# Altium footprint library QFN_Sq_65P_Side_N.PcbLib: 52 footprints (part 2 of 4)
Each footprint in its own frame and in the unit in brackets; x right, y up, seen from the top. Pads: shape width x height; smd on the part's side, far side on the other; paste and mask are expansions set on the pad; w line width, h text height; cw(c..) or ccw(c..) is an arc to the next point about the centre after c.
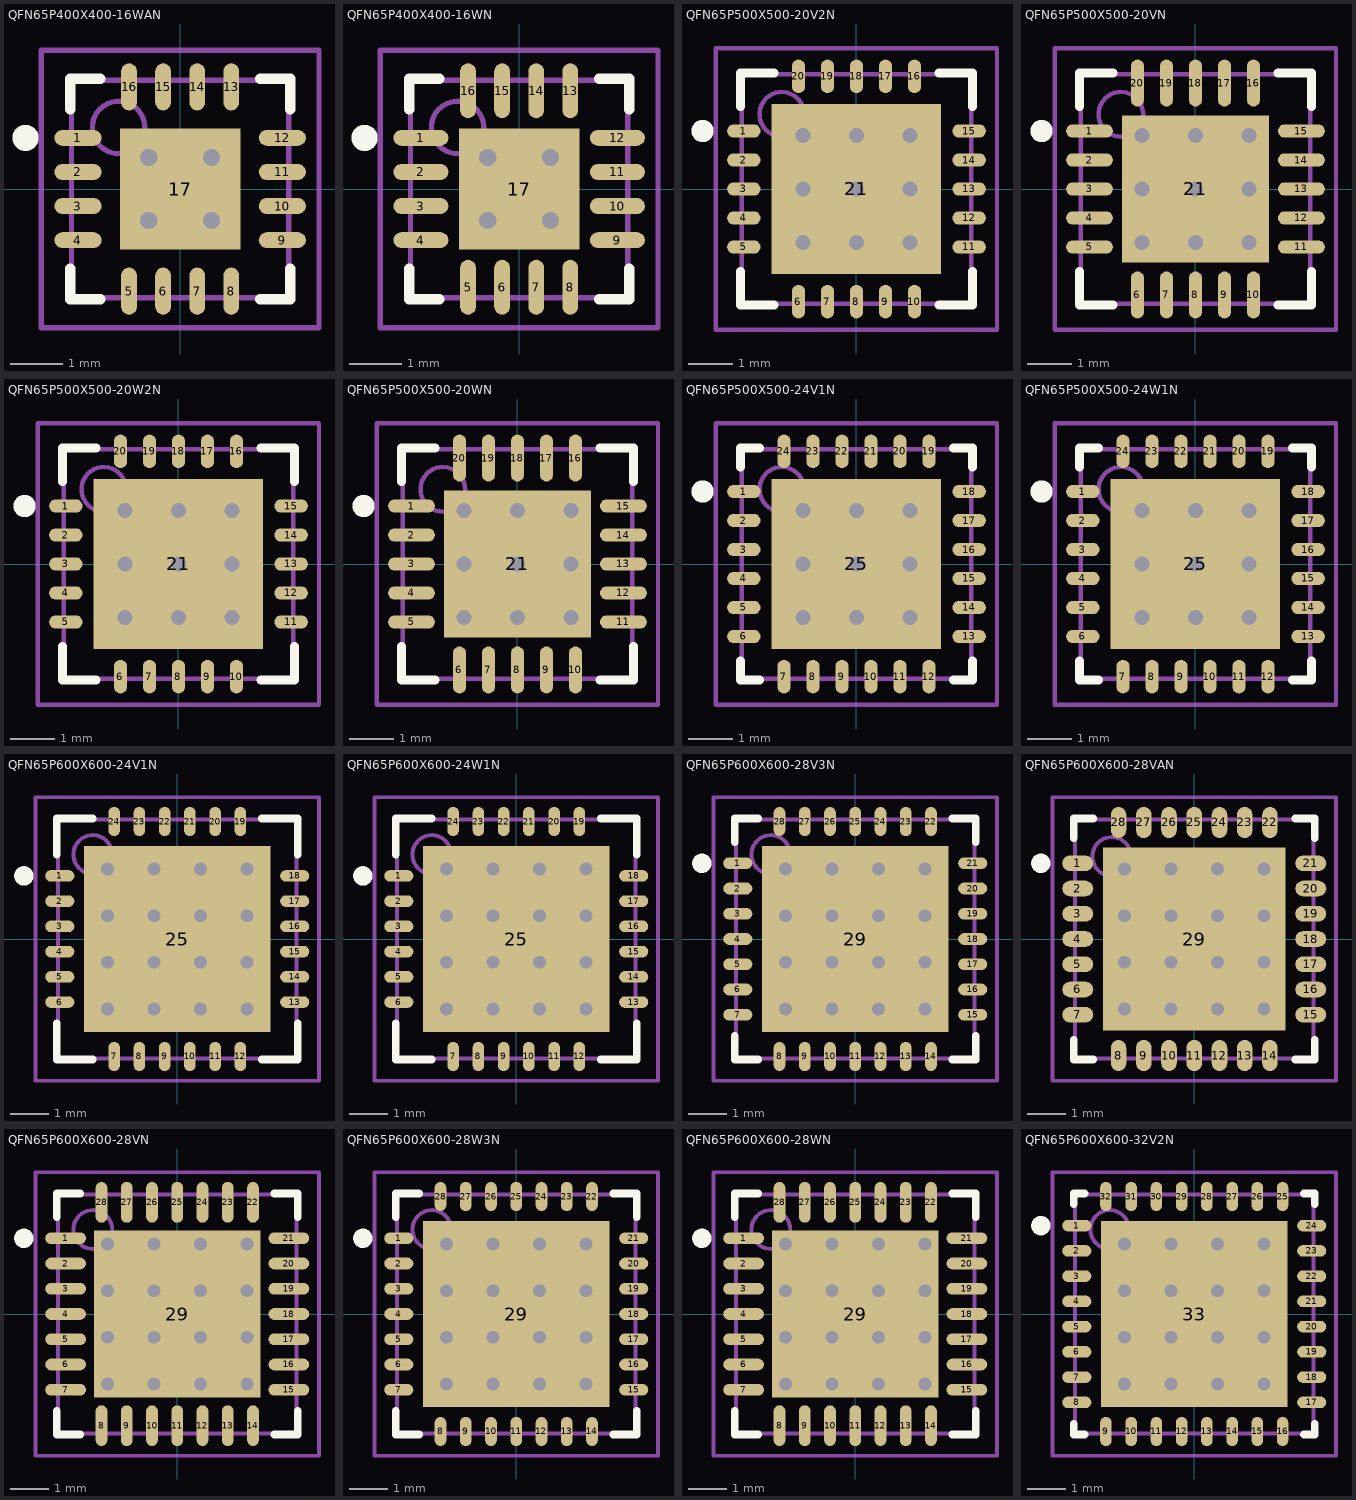
[diagram p1: the footprints below, top view; thin cyan lines are the x and y axes]

## QFN65P400X400-16WAN [mm] "16-Pin Plastic Quad Flat No-Lead 0.65 mm Pitch"
height 0.8
pads (17):
  oval 0.9x0.3 smd: 1(-1.95,0.975) 2(-1.95,0.325) 3(-1.95,-0.325) 4(-1.95,-0.975) 9(1.95,-0.975) 10(1.95,-0.325) 11(1.95,0.325) 12(1.95,0.975)
  oval 0.3x0.9 smd: 5(-0.975,-1.95) 6(-0.325,-1.95) 7(0.325,-1.95) 8(0.975,-1.95) 13(0.975,1.95) 14(0.325,1.95) 15(-0.325,1.95) 16(-0.975,1.95)
  rect 2.3x2.3 smd: 17(0,0)
via -0.6,0.6 diameter 0.66 hole 0.33
via 0.6,0.6 diameter 0.66 hole 0.33
via -0.6,-0.6 diameter 0.66 hole 0.33
via 0.6,-0.6 diameter 0.66 hole 0.33
Top Overlay:
  circle w0.25: c-2.95,0.975 r0.125
  lines w0.2: -2.1,-1.525 -2.1,-2.1 -1.525,-2.1 ; -2.1,1.525 -2.1,2.1 -1.525,2.1 ; 1.525,-2.1 2.1,-2.1 2.1,-1.525 ; 1.525,2.1 2.1,2.1 2.1,1.525
Mechanical 13:
  circle w0.1: c-1.175,1.175 r0.5
  lines w0.1: -2.075,-2.075 -2.075,2.075 2.075,2.075 2.075,-2.075 -2.075,-2.075
Mechanical 15:
  lines w0.1: -0.5,0 0.5,0 ; 0,-0.5 0,0.5 ; -2.65,-2.65 -2.65,2.65 2.65,2.65 2.65,-2.65 -2.65,-2.65
3D body: height 1, standoff 0, extent -2.075,-2.075 2.075,2.075

## QFN65P400X400-16WN [mm] "QFN, 16-Leads, Body 4x4 mm, Pitch 0.65mm, IPC Medium Density"
height 0.8
pads (17):
  oval 1.05x0.3 smd: 1(-1.875,0.975) 2(-1.875,0.325) 3(-1.875,-0.325) 4(-1.875,-0.975) 9(1.875,-0.975) 10(1.875,-0.325) 11(1.875,0.325) 12(1.875,0.975)
  oval 0.3x1.05 smd: 5(-0.975,-1.875) 6(-0.325,-1.875) 7(0.325,-1.875) 8(0.975,-1.875) 13(0.975,1.875) 14(0.325,1.875) 15(-0.325,1.875) 16(-0.975,1.875)
  rect 2.3x2.3 smd: 17(0,0)
via 0.6,-0.6 diameter 0.66 hole 0.33
via -0.6,-0.6 diameter 0.66 hole 0.33
via 0.6,0.6 diameter 0.66 hole 0.33
via -0.6,0.6 diameter 0.66 hole 0.33
Top Overlay:
  circle w0.25: c-2.95,0.975 r0.125
  lines w0.2: -2.1,-1.525 -2.1,-2.1 -1.525,-2.1 ; -2.1,1.525 -2.1,2.1 -1.525,2.1 ; 1.525,-2.1 2.1,-2.1 2.1,-1.525 ; 1.525,2.1 2.1,2.1 2.1,1.525
Mechanical 13:
  circle w0.1: c-1.175,1.175 r0.5
  lines w0.1: -2.075,-2.075 2.075,-2.075 2.075,2.075 -2.075,2.075 -2.075,-2.075
Mechanical 15:
  lines w0.1: -0.5,0 0.5,0 ; 0,-0.5 0,0.5 ; -2.65,-2.65 2.65,-2.65 2.65,2.65 -2.65,2.65 -2.65,-2.65
3D body: height 0.8, standoff 0, extent -2.075,-2.075 2.075,2.075

## QFN65P500X500-20V2N [mm] "QFN, 20-Leads, Body 5x5 mm, Pitch 0.65mm, IPC Medium Density"
height 1
pads (21):
  oval 0.75x0.3 smd: 1(-2.525,1.3) 2(-2.525,0.65) 3(-2.525,0) 4(-2.525,-0.65) 5(-2.525,-1.3) 11(2.525,-1.3) 12(2.525,-0.65) 13(2.525,0) 14(2.525,0.65) 15(2.525,1.3)
  oval 0.3x0.75 smd: 6(-1.3,-2.525) 7(-0.65,-2.525) 8(0,-2.525) 9(0.65,-2.525) 10(1.3,-2.525) 16(1.3,2.525) 17(0.65,2.525) 18(0,2.525) 19(-0.65,2.525) 20(-1.3,2.525)
  rect 3.8x3.8 smd: 21(0,0)
via 1.2,-1.2 diameter 0.66 hole 0.33
via 0,-1.2 diameter 0.66 hole 0.33
via -1.2,-1.2 diameter 0.66 hole 0.33
via 1.2,0 diameter 0.66 hole 0.33
via 0,0 diameter 0.66 hole 0.33
via -1.2,0 diameter 0.66 hole 0.33
via 1.2,1.2 diameter 0.66 hole 0.33
via 0,1.2 diameter 0.66 hole 0.33
via -1.2,1.2 diameter 0.66 hole 0.33
Top Overlay:
  circle w0.25: c-3.45,1.3 r0.125
  lines w0.2: -2.6,-1.85 -2.6,-2.6 -1.85,-2.6 ; -2.6,1.85 -2.6,2.6 -1.85,2.6 ; 1.85,-2.6 2.6,-2.6 2.6,-1.85 ; 1.85,2.6 2.6,2.6 2.6,1.85
Mechanical 13:
  circle w0.1: c-1.675,1.675 r0.5
  lines w0.1: -2.575,-2.575 2.575,-2.575 2.575,2.575 -2.575,2.575 -2.575,-2.575
Mechanical 15:
  lines w0.1: -0.5,0 0.5,0 ; 0,-0.5 0,0.5 ; -3.15,-3.15 3.15,-3.15 3.15,3.15 -3.15,3.15 -3.15,-3.15
3D body: height 1, standoff 0, extent -2.575,-2.575 2.575,2.575

## QFN65P500X500-20VN [mm] "QFN, 20-Leads, Body 5x5 mm, Pitch 0.65mm, IPC Medium Density"
height 1
pads (21):
  oval 1.05x0.3 smd: 1(-2.375,1.3) 2(-2.375,0.65) 3(-2.375,0) 4(-2.375,-0.65) 5(-2.375,-1.3) 11(2.375,-1.3) 12(2.375,-0.65) 13(2.375,0) 14(2.375,0.65) 15(2.375,1.3)
  oval 0.3x1.05 smd: 6(-1.3,-2.375) 7(-0.65,-2.375) 8(0,-2.375) 9(0.65,-2.375) 10(1.3,-2.375) 16(1.3,2.375) 17(0.65,2.375) 18(0,2.375) 19(-0.65,2.375) 20(-1.3,2.375)
  rect 3.3x3.3 smd: 21(0,0)
via 1.2,-1.2 diameter 0.66 hole 0.33
via 0,-1.2 diameter 0.66 hole 0.33
via -1.2,-1.2 diameter 0.66 hole 0.33
via 1.2,0 diameter 0.66 hole 0.33
via 0,0 diameter 0.66 hole 0.33
via -1.2,0 diameter 0.66 hole 0.33
via 1.2,1.2 diameter 0.66 hole 0.33
via 0,1.2 diameter 0.66 hole 0.33
via -1.2,1.2 diameter 0.66 hole 0.33
Top Overlay:
  circle w0.25: c-3.45,1.3 r0.125
  lines w0.2: -2.6,-1.85 -2.6,-2.6 -1.85,-2.6 ; -2.6,1.85 -2.6,2.6 -1.85,2.6 ; 1.85,-2.6 2.6,-2.6 2.6,-1.85 ; 1.85,2.6 2.6,2.6 2.6,1.85
Mechanical 13:
  circle w0.1: c-1.675,1.675 r0.5
  lines w0.1: -2.575,-2.575 2.575,-2.575 2.575,2.575 -2.575,2.575 -2.575,-2.575
Mechanical 15:
  lines w0.1: -0.5,0 0.5,0 ; 0,-0.5 0,0.5 ; -3.15,-3.15 3.15,-3.15 3.15,3.15 -3.15,3.15 -3.15,-3.15
3D body: height 1, standoff 0, extent -2.575,-2.575 2.575,2.575

## QFN65P500X500-20W2N [mm] "QFN, 20-Leads, Body 5x5 mm, Pitch 0.65mm, IPC Medium Density"
height 0.8
pads (21):
  oval 0.75x0.3 smd: 1(-2.525,1.3) 2(-2.525,0.65) 3(-2.525,0) 4(-2.525,-0.65) 5(-2.525,-1.3) 11(2.525,-1.3) 12(2.525,-0.65) 13(2.525,0) 14(2.525,0.65) 15(2.525,1.3)
  oval 0.3x0.75 smd: 6(-1.3,-2.525) 7(-0.65,-2.525) 8(0,-2.525) 9(0.65,-2.525) 10(1.3,-2.525) 16(1.3,2.525) 17(0.65,2.525) 18(0,2.525) 19(-0.65,2.525) 20(-1.3,2.525)
  rect 3.8x3.8 smd: 21(0,0)
via 1.2,-1.2 diameter 0.66 hole 0.33
via 0,-1.2 diameter 0.66 hole 0.33
via -1.2,-1.2 diameter 0.66 hole 0.33
via 1.2,0 diameter 0.66 hole 0.33
via 0,0 diameter 0.66 hole 0.33
via -1.2,0 diameter 0.66 hole 0.33
via 1.2,1.2 diameter 0.66 hole 0.33
via 0,1.2 diameter 0.66 hole 0.33
via -1.2,1.2 diameter 0.66 hole 0.33
Top Overlay:
  circle w0.25: c-3.45,1.3 r0.125
  lines w0.2: -2.6,-1.85 -2.6,-2.6 -1.85,-2.6 ; -2.6,1.85 -2.6,2.6 -1.85,2.6 ; 1.85,-2.6 2.6,-2.6 2.6,-1.85 ; 1.85,2.6 2.6,2.6 2.6,1.85
Mechanical 13:
  circle w0.1: c-1.675,1.675 r0.5
  lines w0.1: -2.575,-2.575 2.575,-2.575 2.575,2.575 -2.575,2.575 -2.575,-2.575
Mechanical 15:
  lines w0.1: -0.5,0 0.5,0 ; 0,-0.5 0,0.5 ; -3.15,-3.15 3.15,-3.15 3.15,3.15 -3.15,3.15 -3.15,-3.15
3D body: height 0.8, standoff 0, extent -2.575,-2.575 2.575,2.575

## QFN65P500X500-20WN [mm] "QFN, 20-Leads, Body 5x5 mm, Pitch 0.65mm, IPC Medium Density"
height 0.8
pads (21):
  oval 1.05x0.3 smd: 1(-2.375,1.3) 2(-2.375,0.65) 3(-2.375,0) 4(-2.375,-0.65) 5(-2.375,-1.3) 11(2.375,-1.3) 12(2.375,-0.65) 13(2.375,0) 14(2.375,0.65) 15(2.375,1.3)
  oval 0.3x1.05 smd: 6(-1.3,-2.375) 7(-0.65,-2.375) 8(0,-2.375) 9(0.65,-2.375) 10(1.3,-2.375) 16(1.3,2.375) 17(0.65,2.375) 18(0,2.375) 19(-0.65,2.375) 20(-1.3,2.375)
  rect 3.3x3.3 smd: 21(0,0)
via 1.2,-1.2 diameter 0.66 hole 0.33
via 0,-1.2 diameter 0.66 hole 0.33
via -1.2,-1.2 diameter 0.66 hole 0.33
via 1.2,0 diameter 0.66 hole 0.33
via 0,0 diameter 0.66 hole 0.33
via -1.2,0 diameter 0.66 hole 0.33
via 1.2,1.2 diameter 0.66 hole 0.33
via 0,1.2 diameter 0.66 hole 0.33
via -1.2,1.2 diameter 0.66 hole 0.33
Top Overlay:
  circle w0.25: c-3.45,1.3 r0.125
  lines w0.2: -2.6,-1.85 -2.6,-2.6 -1.85,-2.6 ; -2.6,1.85 -2.6,2.6 -1.85,2.6 ; 1.85,-2.6 2.6,-2.6 2.6,-1.85 ; 1.85,2.6 2.6,2.6 2.6,1.85
Mechanical 13:
  circle w0.1: c-1.675,1.675 r0.5
  lines w0.1: -2.575,-2.575 2.575,-2.575 2.575,2.575 -2.575,2.575 -2.575,-2.575
Mechanical 15:
  lines w0.1: -0.5,0 0.5,0 ; 0,-0.5 0,0.5 ; -3.15,-3.15 3.15,-3.15 3.15,3.15 -3.15,3.15 -3.15,-3.15
3D body: height 0.8, standoff 0, extent -2.575,-2.575 2.575,2.575

## QFN65P500X500-24V1N [mm] "QFN, 24-Leads, Body 5x5 mm, Pitch 0.65mm, IPC Medium Density"
height 1
pads (25):
  oval 0.75x0.3 smd: 1(-2.525,1.625) 2(-2.525,0.975) 3(-2.525,0.325) 4(-2.525,-0.325) 5(-2.525,-0.975) 6(-2.525,-1.625) 13(2.525,-1.625) 14(2.525,-0.975) 15(2.525,-0.325) 16(2.525,0.325) 17(2.525,0.975) 18(2.525,1.625)
  oval 0.3x0.75 smd: 7(-1.625,-2.525) 8(-0.975,-2.525) 9(-0.325,-2.525) 10(0.325,-2.525) 11(0.975,-2.525) 12(1.625,-2.525) 19(1.625,2.525) 20(0.975,2.525) 21(0.325,2.525) 22(-0.325,2.525) 23(-0.975,2.525) 24(-1.625,2.525)
  rect 3.8x3.8 smd: 25(0,0)
via 1.2,-1.2 diameter 0.66 hole 0.33
via 0,-1.2 diameter 0.66 hole 0.33
via -1.2,-1.2 diameter 0.66 hole 0.33
via 1.2,0 diameter 0.66 hole 0.33
via 0,0 diameter 0.66 hole 0.33
via -1.2,0 diameter 0.66 hole 0.33
via 1.2,1.2 diameter 0.66 hole 0.33
via 0,1.2 diameter 0.66 hole 0.33
via -1.2,1.2 diameter 0.66 hole 0.33
Top Overlay:
  circle w0.25: c-3.45,1.625 r0.125
  lines w0.2: -2.6,-2.175 -2.6,-2.6 -2.175,-2.6 ; -2.6,2.175 -2.6,2.6 -2.175,2.6 ; 2.175,-2.6 2.6,-2.6 2.6,-2.175 ; 2.175,2.6 2.6,2.6 2.6,2.175
Mechanical 13:
  circle w0.1: c-1.675,1.675 r0.5
  lines w0.1: -2.575,-2.575 2.575,-2.575 2.575,2.575 -2.575,2.575 -2.575,-2.575
Mechanical 15:
  lines w0.1: -0.5,0 0.5,0 ; 0,-0.5 0,0.5 ; -3.15,-3.15 3.15,-3.15 3.15,3.15 -3.15,3.15 -3.15,-3.15
3D body: height 1, standoff 0, extent -2.575,-2.575 2.575,2.575

## QFN65P500X500-24W1N [mm] "QFN, 24-Leads, Body 5x5 mm, Pitch 0.65mm, IPC Medium Density"
height 0.8
pads (25):
  oval 0.75x0.3 smd: 1(-2.525,1.625) 2(-2.525,0.975) 3(-2.525,0.325) 4(-2.525,-0.325) 5(-2.525,-0.975) 6(-2.525,-1.625) 13(2.525,-1.625) 14(2.525,-0.975) 15(2.525,-0.325) 16(2.525,0.325) 17(2.525,0.975) 18(2.525,1.625)
  oval 0.3x0.75 smd: 7(-1.625,-2.525) 8(-0.975,-2.525) 9(-0.325,-2.525) 10(0.325,-2.525) 11(0.975,-2.525) 12(1.625,-2.525) 19(1.625,2.525) 20(0.975,2.525) 21(0.325,2.525) 22(-0.325,2.525) 23(-0.975,2.525) 24(-1.625,2.525)
  rect 3.8x3.8 smd: 25(0,0)
via 1.2,-1.2 diameter 0.66 hole 0.33
via 0,-1.2 diameter 0.66 hole 0.33
via -1.2,-1.2 diameter 0.66 hole 0.33
via 1.2,0 diameter 0.66 hole 0.33
via 0,0 diameter 0.66 hole 0.33
via -1.2,0 diameter 0.66 hole 0.33
via 1.2,1.2 diameter 0.66 hole 0.33
via 0,1.2 diameter 0.66 hole 0.33
via -1.2,1.2 diameter 0.66 hole 0.33
Top Overlay:
  circle w0.25: c-3.45,1.625 r0.125
  lines w0.2: -2.6,-2.175 -2.6,-2.6 -2.175,-2.6 ; -2.6,2.175 -2.6,2.6 -2.175,2.6 ; 2.175,-2.6 2.6,-2.6 2.6,-2.175 ; 2.175,2.6 2.6,2.6 2.6,2.175
Mechanical 13:
  circle w0.1: c-1.675,1.675 r0.5
  lines w0.1: -2.575,-2.575 2.575,-2.575 2.575,2.575 -2.575,2.575 -2.575,-2.575
Mechanical 15:
  lines w0.1: -0.5,0 0.5,0 ; 0,-0.5 0,0.5 ; -3.15,-3.15 3.15,-3.15 3.15,3.15 -3.15,3.15 -3.15,-3.15
3D body: height 0.8, standoff 0, extent -2.575,-2.575 2.575,2.575

## QFN65P600X600-24V1N [mm] "QFN, 24-Leads, Body 6x6 mm, Pitch 0.65mm, IPC Medium Density"
height 1
pads (25):
  oval 0.75x0.3 smd: 1(-3.025,1.625) 2(-3.025,0.975) 3(-3.025,0.325) 4(-3.025,-0.325) 5(-3.025,-0.975) 6(-3.025,-1.625) 13(3.025,-1.625) 14(3.025,-0.975) 15(3.025,-0.325) 16(3.025,0.325) 17(3.025,0.975) 18(3.025,1.625)
  oval 0.3x0.75 smd: 7(-1.625,-3.025) 8(-0.975,-3.025) 9(-0.325,-3.025) 10(0.325,-3.025) 11(0.975,-3.025) 12(1.625,-3.025) 19(1.625,3.025) 20(0.975,3.025) 21(0.325,3.025) 22(-0.325,3.025) 23(-0.975,3.025) 24(-1.625,3.025)
  rect 4.8x4.8 smd: 25(0,0)
via 1.8,-1.8 diameter 0.66 hole 0.33
via 0.6,-1.8 diameter 0.66 hole 0.33
via -0.6,-1.8 diameter 0.66 hole 0.33
via -1.8,-1.8 diameter 0.66 hole 0.33
via 1.8,-0.6 diameter 0.66 hole 0.33
via 0.6,-0.6 diameter 0.66 hole 0.33
via -0.6,-0.6 diameter 0.66 hole 0.33
via -1.8,-0.6 diameter 0.66 hole 0.33
via 1.8,0.6 diameter 0.66 hole 0.33
via 0.6,0.6 diameter 0.66 hole 0.33
via -0.6,0.6 diameter 0.66 hole 0.33
via -1.8,0.6 diameter 0.66 hole 0.33
via 1.8,1.8 diameter 0.66 hole 0.33
via 0.6,1.8 diameter 0.66 hole 0.33
via -0.6,1.8 diameter 0.66 hole 0.33
via -1.8,1.8 diameter 0.66 hole 0.33
Top Overlay:
  circle w0.25: c-3.95,1.625 r0.125
  lines w0.2: -3.1,-2.175 -3.1,-3.1 -2.175,-3.1 ; -3.1,2.175 -3.1,3.1 -2.175,3.1 ; 2.175,-3.1 3.1,-3.1 3.1,-2.175 ; 2.175,3.1 3.1,3.1 3.1,2.175
Mechanical 13:
  circle w0.1: c-2.175,2.175 r0.5
  lines w0.1: -3.075,-3.075 3.075,-3.075 3.075,3.075 -3.075,3.075 -3.075,-3.075
Mechanical 15:
  lines w0.1: -0.5,0 0.5,0 ; 0,-0.5 0,0.5 ; -3.65,-3.65 3.65,-3.65 3.65,3.65 -3.65,3.65 -3.65,-3.65
3D body: height 1, standoff 0, extent -3.075,-3.075 3.075,3.075

## QFN65P600X600-24W1N [mm] "QFN, 24-Leads, Body 6x6 mm, Pitch 0.65mm, IPC Medium Density"
height 0.8
pads (25):
  oval 0.75x0.3 smd: 1(-3.025,1.625) 2(-3.025,0.975) 3(-3.025,0.325) 4(-3.025,-0.325) 5(-3.025,-0.975) 6(-3.025,-1.625) 13(3.025,-1.625) 14(3.025,-0.975) 15(3.025,-0.325) 16(3.025,0.325) 17(3.025,0.975) 18(3.025,1.625)
  oval 0.3x0.75 smd: 7(-1.625,-3.025) 8(-0.975,-3.025) 9(-0.325,-3.025) 10(0.325,-3.025) 11(0.975,-3.025) 12(1.625,-3.025) 19(1.625,3.025) 20(0.975,3.025) 21(0.325,3.025) 22(-0.325,3.025) 23(-0.975,3.025) 24(-1.625,3.025)
  rect 4.8x4.8 smd: 25(0,0)
via 1.8,-1.8 diameter 0.66 hole 0.33
via 0.6,-1.8 diameter 0.66 hole 0.33
via -0.6,-1.8 diameter 0.66 hole 0.33
via -1.8,-1.8 diameter 0.66 hole 0.33
via 1.8,-0.6 diameter 0.66 hole 0.33
via 0.6,-0.6 diameter 0.66 hole 0.33
via -0.6,-0.6 diameter 0.66 hole 0.33
via -1.8,-0.6 diameter 0.66 hole 0.33
via 1.8,0.6 diameter 0.66 hole 0.33
via 0.6,0.6 diameter 0.66 hole 0.33
via -0.6,0.6 diameter 0.66 hole 0.33
via -1.8,0.6 diameter 0.66 hole 0.33
via 1.8,1.8 diameter 0.66 hole 0.33
via 0.6,1.8 diameter 0.66 hole 0.33
via -0.6,1.8 diameter 0.66 hole 0.33
via -1.8,1.8 diameter 0.66 hole 0.33
Top Overlay:
  circle w0.25: c-3.95,1.625 r0.125
  lines w0.2: -3.1,-2.175 -3.1,-3.1 -2.175,-3.1 ; -3.1,2.175 -3.1,3.1 -2.175,3.1 ; 2.175,-3.1 3.1,-3.1 3.1,-2.175 ; 2.175,3.1 3.1,3.1 3.1,2.175
Mechanical 13:
  circle w0.1: c-2.175,2.175 r0.5
  lines w0.1: -3.075,-3.075 3.075,-3.075 3.075,3.075 -3.075,3.075 -3.075,-3.075
Mechanical 15:
  lines w0.1: -0.5,0 0.5,0 ; 0,-0.5 0,0.5 ; -3.65,-3.65 3.65,-3.65 3.65,3.65 -3.65,3.65 -3.65,-3.65
3D body: height 0.8, standoff 0, extent -3.075,-3.075 3.075,3.075

## QFN65P600X600-28V3N [mm] "QFN, 28-Leads, Body 6x6 mm, Pitch 0.65mm, IPC Medium Density"
height 1
pads (29):
  oval 0.75x0.3 smd: 1(-3.025,1.95) 2(-3.025,1.3) 3(-3.025,0.65) 4(-3.025,0) 5(-3.025,-0.65) 6(-3.025,-1.3) 7(-3.025,-1.95) 15(3.025,-1.95) 16(3.025,-1.3) 17(3.025,-0.65) 18(3.025,0) 19(3.025,0.65) 20(3.025,1.3) 21(3.025,1.95)
  oval 0.3x0.75 smd: 8(-1.95,-3.025) 9(-1.3,-3.025) 10(-0.65,-3.025) 11(0,-3.025) 12(0.65,-3.025) 13(1.3,-3.025) 14(1.95,-3.025) 22(1.95,3.025) 23(1.3,3.025) 24(0.65,3.025) 25(0,3.025) 26(-0.65,3.025) 27(-1.3,3.025) 28(-1.95,3.025)
  rect 4.8x4.8 smd: 29(0,0)
via 1.8,-1.8 diameter 0.66 hole 0.33
via 0.6,-1.8 diameter 0.66 hole 0.33
via -0.6,-1.8 diameter 0.66 hole 0.33
via -1.8,-1.8 diameter 0.66 hole 0.33
via 1.8,-0.6 diameter 0.66 hole 0.33
via 0.6,-0.6 diameter 0.66 hole 0.33
via -0.6,-0.6 diameter 0.66 hole 0.33
via -1.8,-0.6 diameter 0.66 hole 0.33
via 1.8,0.6 diameter 0.66 hole 0.33
via 0.6,0.6 diameter 0.66 hole 0.33
via -0.6,0.6 diameter 0.66 hole 0.33
via -1.8,0.6 diameter 0.66 hole 0.33
via 1.8,1.8 diameter 0.66 hole 0.33
via 0.6,1.8 diameter 0.66 hole 0.33
via -0.6,1.8 diameter 0.66 hole 0.33
via -1.8,1.8 diameter 0.66 hole 0.33
Top Overlay:
  circle w0.25: c-3.95,1.95 r0.125
  lines w0.2: -3.1,-2.5 -3.1,-3.1 -2.5,-3.1 ; -3.1,2.5 -3.1,3.1 -2.5,3.1 ; 2.5,-3.1 3.1,-3.1 3.1,-2.5 ; 2.5,3.1 3.1,3.1 3.1,2.5
Mechanical 13:
  circle w0.1: c-2.175,2.175 r0.5
  lines w0.1: -3.075,-3.075 3.075,-3.075 3.075,3.075 -3.075,3.075 -3.075,-3.075
Mechanical 15:
  lines w0.1: -0.5,0 0.5,0 ; 0,-0.5 0,0.5 ; -3.65,-3.65 3.65,-3.65 3.65,3.65 -3.65,3.65 -3.65,-3.65
3D body: height 1, standoff 0, extent -3.075,-3.075 3.075,3.075

## QFN65P600X600-28VAN [mm] "QFN, 28-Leads, Body 6x6 mm, Pitch 0.65mm, IPC Medium Density"
height 1
pads (29):
  oval 0.8x0.4 smd: 1(-3,1.95) 2(-3,1.3) 3(-3,0.65) 4(-3,0) 5(-3,-0.65) 6(-3,-1.3) 7(-3,-1.95) 15(3,-1.95) 16(3,-1.3) 17(3,-0.65) 18(3,0) 19(3,0.65) 20(3,1.3) 21(3,1.95)
  oval 0.4x0.8 smd: 8(-1.95,-3) 9(-1.3,-3) 10(-0.65,-3) 11(0,-3) 12(0.65,-3) 13(1.3,-3) 14(1.95,-3) 22(1.95,3) 23(1.3,3) 24(0.65,3) 25(0,3) 26(-0.65,3) 27(-1.3,3) 28(-1.95,3)
  rect 4.7x4.7 smd: 29(0,0)
via -1.8,1.8 diameter 0.66 hole 0.33
via -0.6,1.8 diameter 0.66 hole 0.33
via 0.6,1.8 diameter 0.66 hole 0.33
via 1.8,1.8 diameter 0.66 hole 0.33
via -1.8,0.6 diameter 0.66 hole 0.33
via -0.6,0.6 diameter 0.66 hole 0.33
via 0.6,0.6 diameter 0.66 hole 0.33
via 1.8,0.6 diameter 0.66 hole 0.33
via -1.8,-0.6 diameter 0.66 hole 0.33
via -0.6,-0.6 diameter 0.66 hole 0.33
via 0.6,-0.6 diameter 0.66 hole 0.33
via 1.8,-0.6 diameter 0.66 hole 0.33
via -1.8,-1.8 diameter 0.66 hole 0.33
via -0.6,-1.8 diameter 0.66 hole 0.33
via 0.6,-1.8 diameter 0.66 hole 0.33
via 1.8,-1.8 diameter 0.66 hole 0.33
Top Overlay:
  circle w0.25: c-3.95,1.95 r0.125
  lines w0.2: -3.1,-2.6 -3.1,-3.1 -2.6,-3.1 ; -3.1,2.6 -3.1,3.1 -2.6,3.1 ; 2.6,-3.1 3.1,-3.1 3.1,-2.6 ; 2.6,3.1 3.1,3.1 3.1,2.6
Mechanical 13:
  circle w0.1: c-2.125,2.125 r0.5
  lines w0.1: -3.075,-3.075 -3.075,3.075 3.075,3.075 3.075,-3.075 -3.075,-3.075
Mechanical 15:
  lines w0.1: -0.5,0 0.5,0 ; 0,-0.5 0,0.5 ; -3.65,-3.65 -3.65,3.65 3.65,3.65 3.65,-3.65 -3.65,-3.65
3D body: height 1, standoff 0, extent -3.075,-3.075 3.075,3.075

## QFN65P600X600-28VN [mm] "QFN, 28-Leads, Body 6x6 mm, Pitch 0.65mm, IPC Medium Density"
height 1
pads (29):
  oval 1.05x0.3 smd: 1(-2.875,1.95) 2(-2.875,1.3) 3(-2.875,0.65) 4(-2.875,0) 5(-2.875,-0.65) 6(-2.875,-1.3) 7(-2.875,-1.95) 15(2.875,-1.95) 16(2.875,-1.3) 17(2.875,-0.65) 18(2.875,0) 19(2.875,0.65) 20(2.875,1.3) 21(2.875,1.95)
  oval 0.3x1.05 smd: 8(-1.95,-2.875) 9(-1.3,-2.875) 10(-0.65,-2.875) 11(0,-2.875) 12(0.65,-2.875) 13(1.3,-2.875) 14(1.95,-2.875) 22(1.95,2.875) 23(1.3,2.875) 24(0.65,2.875) 25(0,2.875) 26(-0.65,2.875) 27(-1.3,2.875) 28(-1.95,2.875)
  rect 4.3x4.3 smd: 29(0,0)
via -1.8,1.8 diameter 0.66 hole 0.33
via -0.6,1.8 diameter 0.66 hole 0.33
via 0.6,1.8 diameter 0.66 hole 0.33
via 1.8,1.8 diameter 0.66 hole 0.33
via -1.8,0.6 diameter 0.66 hole 0.33
via -0.6,0.6 diameter 0.66 hole 0.33
via 0.6,0.6 diameter 0.66 hole 0.33
via 1.8,0.6 diameter 0.66 hole 0.33
via -1.8,-0.6 diameter 0.66 hole 0.33
via -0.6,-0.6 diameter 0.66 hole 0.33
via 0.6,-0.6 diameter 0.66 hole 0.33
via 1.8,-0.6 diameter 0.66 hole 0.33
via -1.8,-1.8 diameter 0.66 hole 0.33
via -0.6,-1.8 diameter 0.66 hole 0.33
via 0.6,-1.8 diameter 0.66 hole 0.33
via 1.8,-1.8 diameter 0.66 hole 0.33
Top Overlay:
  circle w0.25: c-3.95,1.95 r0.125
  lines w0.2: -3.1,-2.5 -3.1,-3.1 -2.5,-3.1 ; -3.1,2.5 -3.1,3.1 -2.5,3.1 ; 2.5,-3.1 3.1,-3.1 3.1,-2.5 ; 2.5,3.1 3.1,3.1 3.1,2.5
Mechanical 13:
  circle w0.1: c-2.175,2.175 r0.5
  lines w0.1: -3.075,-3.075 -3.075,3.075 3.075,3.075 3.075,-3.075 -3.075,-3.075
Mechanical 15:
  lines w0.1: -0.5,0 0.5,0 ; 0,-0.5 0,0.5 ; -3.65,-3.65 -3.65,3.65 3.65,3.65 3.65,-3.65 -3.65,-3.65
3D body: height 1, standoff 0, extent -3.075,-3.075 3.075,3.075

## QFN65P600X600-28W3N [mm] "QFN, 28-Leads, Body 6x6 mm, Pitch 0.65mm, IPC Medium Density"
height 0.8
pads (29):
  oval 0.75x0.3 smd: 1(-3.025,1.95) 2(-3.025,1.3) 3(-3.025,0.65) 4(-3.025,0) 5(-3.025,-0.65) 6(-3.025,-1.3) 7(-3.025,-1.95) 15(3.025,-1.95) 16(3.025,-1.3) 17(3.025,-0.65) 18(3.025,0) 19(3.025,0.65) 20(3.025,1.3) 21(3.025,1.95)
  oval 0.3x0.75 smd: 8(-1.95,-3.025) 9(-1.3,-3.025) 10(-0.65,-3.025) 11(0,-3.025) 12(0.65,-3.025) 13(1.3,-3.025) 14(1.95,-3.025) 22(1.95,3.025) 23(1.3,3.025) 24(0.65,3.025) 25(0,3.025) 26(-0.65,3.025) 27(-1.3,3.025) 28(-1.95,3.025)
  rect 4.8x4.8 smd: 29(0,0)
via -1.8,1.8 diameter 0.66 hole 0.33
via -0.6,1.8 diameter 0.66 hole 0.33
via 0.6,1.8 diameter 0.66 hole 0.33
via 1.8,1.8 diameter 0.66 hole 0.33
via -1.8,0.6 diameter 0.66 hole 0.33
via -0.6,0.6 diameter 0.66 hole 0.33
via 0.6,0.6 diameter 0.66 hole 0.33
via 1.8,0.6 diameter 0.66 hole 0.33
via -1.8,-0.6 diameter 0.66 hole 0.33
via -0.6,-0.6 diameter 0.66 hole 0.33
via 0.6,-0.6 diameter 0.66 hole 0.33
via 1.8,-0.6 diameter 0.66 hole 0.33
via -1.8,-1.8 diameter 0.66 hole 0.33
via -0.6,-1.8 diameter 0.66 hole 0.33
via 0.6,-1.8 diameter 0.66 hole 0.33
via 1.8,-1.8 diameter 0.66 hole 0.33
Top Overlay:
  circle w0.25: c-3.95,1.95 r0.125
  lines w0.2: -3.1,-2.5 -3.1,-3.1 -2.5,-3.1 ; -3.1,2.5 -3.1,3.1 -2.5,3.1 ; 2.5,-3.1 3.1,-3.1 3.1,-2.5 ; 2.5,3.1 3.1,3.1 3.1,2.5
Mechanical 13:
  circle w0.1: c-2.175,2.175 r0.5
  lines w0.1: -3.075,-3.075 -3.075,3.075 3.075,3.075 3.075,-3.075 -3.075,-3.075
Mechanical 15:
  lines w0.1: -0.5,0 0.5,0 ; 0,-0.5 0,0.5 ; -3.65,-3.65 -3.65,3.65 3.65,3.65 3.65,-3.65 -3.65,-3.65
3D body: height 0.8, standoff 0, extent -3.075,-3.075 3.075,3.075

## QFN65P600X600-28WN [mm] "QFN, 28-Leads, Body 6x6 mm, Pitch 0.65mm, IPC Medium Density"
height 0.8
pads (29):
  oval 1.05x0.3 smd: 1(-2.875,1.95) 2(-2.875,1.3) 3(-2.875,0.65) 4(-2.875,0) 5(-2.875,-0.65) 6(-2.875,-1.3) 7(-2.875,-1.95) 15(2.875,-1.95) 16(2.875,-1.3) 17(2.875,-0.65) 18(2.875,0) 19(2.875,0.65) 20(2.875,1.3) 21(2.875,1.95)
  oval 0.3x1.05 smd: 8(-1.95,-2.875) 9(-1.3,-2.875) 10(-0.65,-2.875) 11(0,-2.875) 12(0.65,-2.875) 13(1.3,-2.875) 14(1.95,-2.875) 22(1.95,2.875) 23(1.3,2.875) 24(0.65,2.875) 25(0,2.875) 26(-0.65,2.875) 27(-1.3,2.875) 28(-1.95,2.875)
  rect 4.3x4.3 smd: 29(0,0)
via -1.8,1.8 diameter 0.66 hole 0.33
via -0.6,1.8 diameter 0.66 hole 0.33
via 0.6,1.8 diameter 0.66 hole 0.33
via 1.8,1.8 diameter 0.66 hole 0.33
via -1.8,0.6 diameter 0.66 hole 0.33
via -0.6,0.6 diameter 0.66 hole 0.33
via 0.6,0.6 diameter 0.66 hole 0.33
via 1.8,0.6 diameter 0.66 hole 0.33
via -1.8,-0.6 diameter 0.66 hole 0.33
via -0.6,-0.6 diameter 0.66 hole 0.33
via 0.6,-0.6 diameter 0.66 hole 0.33
via 1.8,-0.6 diameter 0.66 hole 0.33
via -1.8,-1.8 diameter 0.66 hole 0.33
via -0.6,-1.8 diameter 0.66 hole 0.33
via 0.6,-1.8 diameter 0.66 hole 0.33
via 1.8,-1.8 diameter 0.66 hole 0.33
Top Overlay:
  circle w0.25: c-3.95,1.95 r0.125
  lines w0.2: -3.1,-2.5 -3.1,-3.1 -2.5,-3.1 ; -3.1,2.5 -3.1,3.1 -2.5,3.1 ; 2.5,-3.1 3.1,-3.1 3.1,-2.5 ; 2.5,3.1 3.1,3.1 3.1,2.5
Mechanical 13:
  circle w0.1: c-2.175,2.175 r0.5
  lines w0.1: -3.075,-3.075 -3.075,3.075 3.075,3.075 3.075,-3.075 -3.075,-3.075
Mechanical 15:
  lines w0.1: -0.5,0 0.5,0 ; 0,-0.5 0,0.5 ; -3.65,-3.65 -3.65,3.65 3.65,3.65 3.65,-3.65 -3.65,-3.65
3D body: height 0.8, standoff 0, extent -3.075,-3.075 3.075,3.075

## QFN65P600X600-32V2N [mm] "QFN, 32-Leads, Body 6x6 mm, Pitch 0.65mm, IPC Medium Density"
height 1
pads (33):
  oval 0.75x0.3 smd: 1(-3.025,2.275) 2(-3.025,1.625) 3(-3.025,0.975) 4(-3.025,0.325) 5(-3.025,-0.325) 6(-3.025,-0.975) 7(-3.025,-1.625) 8(-3.025,-2.275) 17(3.025,-2.275) 18(3.025,-1.625) 19(3.025,-0.975) 20(3.025,-0.325) 21(3.025,0.325) 22(3.025,0.975) 23(3.025,1.625) 24(3.025,2.275)
  oval 0.3x0.75 smd: 9(-2.275,-3.025) 10(-1.625,-3.025) 11(-0.975,-3.025) 12(-0.325,-3.025) 13(0.325,-3.025) 14(0.975,-3.025) 15(1.625,-3.025) 16(2.275,-3.025) 25(2.275,3.025) 26(1.625,3.025) 27(0.975,3.025) 28(0.325,3.025) 29(-0.325,3.025) 30(-0.975,3.025) 31(-1.625,3.025) 32(-2.275,3.025)
  rect 4.8x4.8 smd: 33(0,0)
via 1.8,-1.8 diameter 0.66 hole 0.33
via 0.6,-1.8 diameter 0.66 hole 0.33
via -0.6,-1.8 diameter 0.66 hole 0.33
via -1.8,-1.8 diameter 0.66 hole 0.33
via 1.8,-0.6 diameter 0.66 hole 0.33
via 0.6,-0.6 diameter 0.66 hole 0.33
via -0.6,-0.6 diameter 0.66 hole 0.33
via -1.8,-0.6 diameter 0.66 hole 0.33
via 1.8,0.6 diameter 0.66 hole 0.33
via 0.6,0.6 diameter 0.66 hole 0.33
via -0.6,0.6 diameter 0.66 hole 0.33
via -1.8,0.6 diameter 0.66 hole 0.33
via 1.8,1.8 diameter 0.66 hole 0.33
via 0.6,1.8 diameter 0.66 hole 0.33
via -0.6,1.8 diameter 0.66 hole 0.33
via -1.8,1.8 diameter 0.66 hole 0.33
Top Overlay:
  circle w0.25: c-3.95,2.275 r0.125
  lines w0.2: -3.1,-2.825 -3.1,-3.1 -2.825,-3.1 ; -3.1,2.825 -3.1,3.1 -2.825,3.1 ; 2.825,-3.1 3.1,-3.1 3.1,-2.825 ; 2.825,3.1 3.1,3.1 3.1,2.825
Mechanical 13:
  circle w0.1: c-2.175,2.175 r0.5
  lines w0.1: -3.075,-3.075 3.075,-3.075 3.075,3.075 -3.075,3.075 -3.075,-3.075
Mechanical 15:
  lines w0.1: -0.5,0 0.5,0 ; 0,-0.5 0,0.5 ; -3.65,-3.65 3.65,-3.65 3.65,3.65 -3.65,3.65 -3.65,-3.65
3D body: height 1, standoff 0, extent -3.075,-3.075 3.075,3.075